# Altium schematic symbol library BLE_Keyboard_V2.SchLib: 7 symbols
Pins are listed as number, name and electrical type; pins without a type are passive.

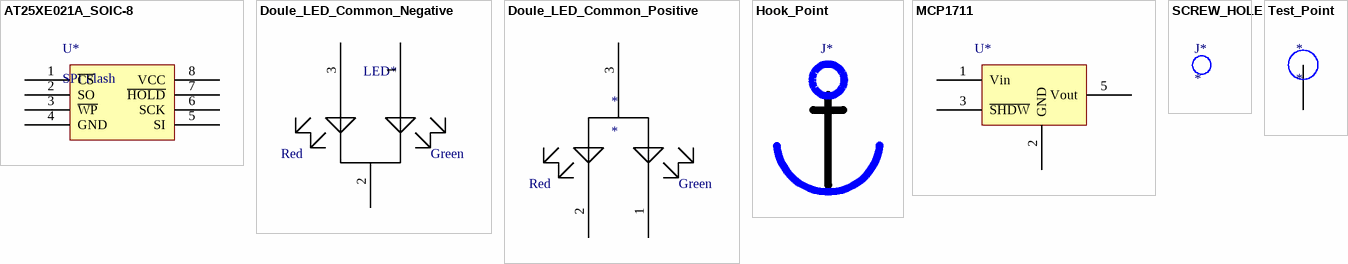
[diagram p0: symbols AT25XE021A_SOIC-8 to Test_Point]

## AT25XE021A_SOIC-8
designator U*, comment SPI Flash
footprint SOIC8 (Footprint not found)
pins: 1 ~{CS}, 2 SO, 3 ~{WP}, 4 GND, 5 SI, 6 SCK, 7 ~{HOLD}, 8 VCC

## Doule_LED_Common_Negative
designator LED*
footprint Double_LED_Common_Negative
pins: 1, 2, 3
text: Red; Green

## Doule_LED_Common_Positive
designator *
pins: 1, 2, 3
text: Red; Green

## Hook_Point
designator J*  (value not drawn)
footprint Hook_Point

## MCP1711
designator U*  (value not drawn)
footprint LC-SOT-23-5
pins: 1 Vin, 2 GND, 3 ~{SHDW}, 5 Vout

## SCREW_HOLE
designator J*

## Test_Point
designator *
footprint Test_Point
pins: 1